# Altium footprint library PcbLib1.PcbLib: 8 footprints
Each footprint in its own frame and in the unit in brackets; x right, y up, seen from the top. Pads: shape width x height; smd on the part's side, far side on the other; paste and mask are expansions set on the pad; w line width, h text height; cw(c..) or ccw(c..) is an arc to the next point about the centre after c.
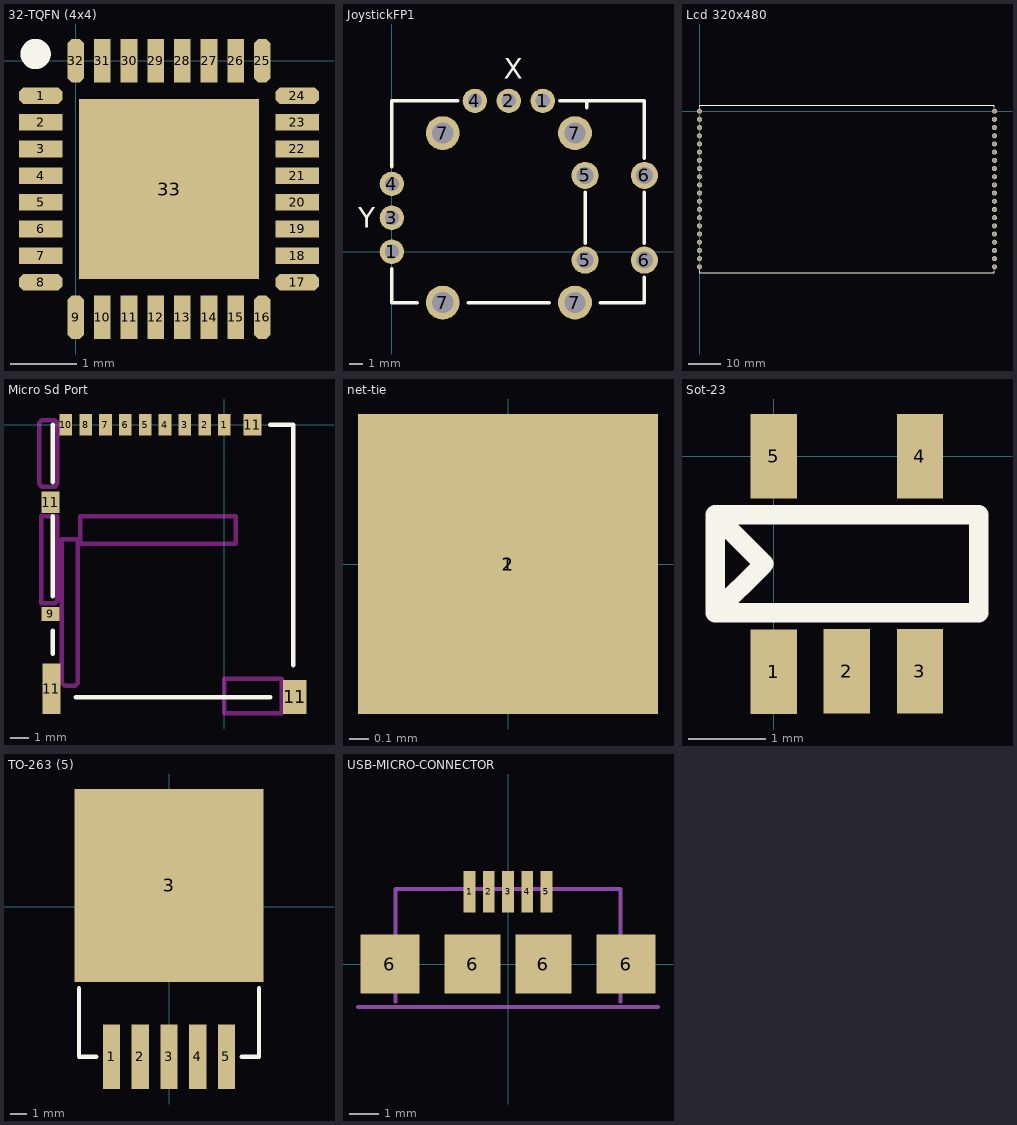
[diagram p0: the footprints below, top view; thin cyan lines are the x and y axes]

## 32-TQFN (4x4) [mm]
pads (33):
  oct 0.65x0.25 smd mask+0.07: 1(-0.525,-0.525) 8(-0.525,-3.325) 17(3.325,-3.325) 24(3.325,-0.525)
  rect 0.65x0.25 smd mask+0.07: 2(-0.525,-0.925) 3(-0.525,-1.325) 4(-0.525,-1.725) 5(-0.525,-2.125) 6(-0.525,-2.525) 7(-0.525,-2.925) 18(3.325,-2.925) 19(3.325,-2.525) 20(3.325,-2.125) 21(3.325,-1.725) 22(3.325,-1.325) 23(3.325,-0.925)
  oct 0.25x0.65 smd mask+0.07: 9(0,-3.85) 16(2.8,-3.85) 25(2.8,0) 32(0,0)
  rect 0.25x0.65 smd mask+0.07: 10(0.4,-3.85) 11(0.8,-3.85) 12(1.2,-3.85) 13(1.6,-3.85) 14(2,-3.85) 15(2.4,-3.85) 26(2.4,0) 27(2,0) 28(1.6,0) 29(1.2,0) 30(0.8,0) 31(0.4,0)
  rect 2.7x2.7 smd mask+0.07: 33(1.4,-1.925)
Top Overlay:
  circle w0.254: c-0.6,0.1 r0.1

## JoystickFP1 [mil]
pads (14):
  round 72 hole 42: 1(0,0) 1(445,445) 2(345,445) 3(0,100) 4(0,200) 4(245,445)
  round 80 hole 50: 5(570,-25) 5(570,225) 6(745,-25) 6(745,225)
  round 100 hole 62: 7(150,-150) 7(150,350) 7(540,-150) 7(540,350)
Top Overlay:
  lines w10: 0,-50 0,-150 75,-150 ; 0,250 0,445 195,445 ; 225,-150 465,-150 ; 495,445 745,445 745,275 ; 570,25 570,175 ; 575,425 575,445 ; 615,-150 745,-150 745,-75 ; 745,25 745,175
  text "Y" at -100,70 h60
  text "X" at 330,510 h60

## Lcd 320x480 [mil]
pads (40):
  round 62 hole 42: 1(0,0) 2(0,-100) 3(0,-200) 4(0,-300) 5(0,-400) 6(0,-500) 7(0,-600) 8(0,-700) 9(0,-800) 10(0,-900) 11(0,-1000) 12(0,-1100) 13(0,-1200) 14(0,-1300) 15(0,-1400) 16(0,-1500) 17(0,-1600) 18(0,-1700) 19(0,-1800) 20(0,-1900) 21(3600,-1900) 22(3600,-1800) 23(3600,-1700) 24(3600,-1600) 25(3600,-1500) 26(3600,-1400) 27(3600,-1300) 28(3600,-1200) 29(3600,-1100) 30(3600,-1000) 31(3600,-900) 32(3600,-800) 33(3600,-700) 34(3600,-600) 35(3600,-500) 36(3600,-400) 37(3600,-300) 38(3600,-200) 39(3600,-100) 40(3600,0)
Top Overlay:
  lines w10: 0,-1950 0,-1975 3600,-1975 3600,-1950 ; 0,50 0,75 3600,75 3600,50

## Micro Sd Port [mm]
pads (14):
  rect 0.7x1.2 smd: 1(0,0) 2(-1.1,0) 3(-2.2,0) 4(-3.3,0) 5(-4.4,0) 6(-5.5,0) 7(-6.6,0) 8(-7.7,0) 10(-8.8,0)
  rect 1x0.8 smd: 9(-9.652,-10.5)
  rect 1x1.2 smd: 11(-9.652,-4.3) 11(1.55,0)
  rect 1x2.8 smd: 11(-9.6,-14.65)
  rect 1.3x1.9 smd: 11(3.9,-15.1)
Top Layer keep-out:
  lines w0.254: -3.3,0 -3.3,-0.031 -3.077,-0.254 ; -2.423,-0.254 -2.2,-0.031 -2.2,0 ; 1.55,-0.254 1.644,-0.254 1.863,-0.473 ; -10.287,-3.28 -10.287,-0.508 -10.287,0.105 -10.138,0.254 -9.42,0.254 -9.271,0.105 -9.271,-3.28 -9.42,-3.429 -10.138,-3.429 -10.287,-3.28 ; -10.16,-9.906 -10.16,-5.08 -9.271,-5.08 -9.271,-9.757 -9.42,-9.906 -10.16,-9.906 ; -9.017,-14.329 -8.868,-14.478 -8.277,-14.478 -8.128,-14.329 -8.128,-6.604 -8.128,-6.35 -9.017,-6.35 -9.017,-14.329 ; -8.001,-6.604 -8.001,-6.35 -8.001,-5.08 0.635,-5.08 0.635,-6.604 -8.001,-6.604 ; 0,-16.002 3.175,-16.002 3.175,-14.097 0,-14.097 0,-16.002
Top Overlay:
  lines w0.254: -9.525,-12.7 -9.525,-11.43 ; -9.525,-9.525 -9.525,-5.08 ; -9.525,-3.175 -9.525,0 ; -8.255,-15.113 2.54,-15.113 ; 2.54,0 3.81,0 3.81,-13.335

## net-tie [mil]
pads (2):
  rect 60x60 smd: 1(0,0) 2(0,0)

## Sot-23 [mm]
pads (5):
  rect 0.6x1.1 smd: 1(0,-2.8) 2(0.95,-2.794) 3(1.9,-2.794) 4(1.9,0) 5(0,0)
Top Overlay:
  lines w0.254: -0.762,-2.032 -0.127,-1.397 -0.762,-0.762 ; -0.762,-2.032 -0.762,-0.762 ; -0.762,-2.032 2.667,-2.032 2.667,-0.762 -0.762,-0.762

## TO-263 (5) [mil]
pads (6):
  rect 40x150 smd mask+4: 1(-134,-350) 2(-67,-350) 3(0,-350) 4(67,-350) 5(134,-350)
  rect 440x450 smd mask+4: 3(0,50)
Top Overlay:
  lines w10: -210,-190 -210,-350 -170,-350 ; 170,-350 210,-350 210,-190

## USB-MICRO-CONNECTOR [mm]
pads (9):
  rect 0.4x1.4 smd: 1(-1.3,2.45) 2(-0.65,2.45) 3(0,2.45) 4(0.65,2.45) 5(1.3,2.45)
  rect 2x2 smd: 6(-4,0) 6(4,0)
  rect 1.9x2 smd: 6(-1.2,0) 6(1.2,0)
Mechanical 2:
  lines w0.127: -5.08,-1.45 5.08,-1.45
Mechanical 3:
  lines w0.127: -3.81,-1.27 -3.81,2.54 3.81,2.54 3.81,-1.27